# EAGLE library part ARDUINO_DUE (library aruduinos)
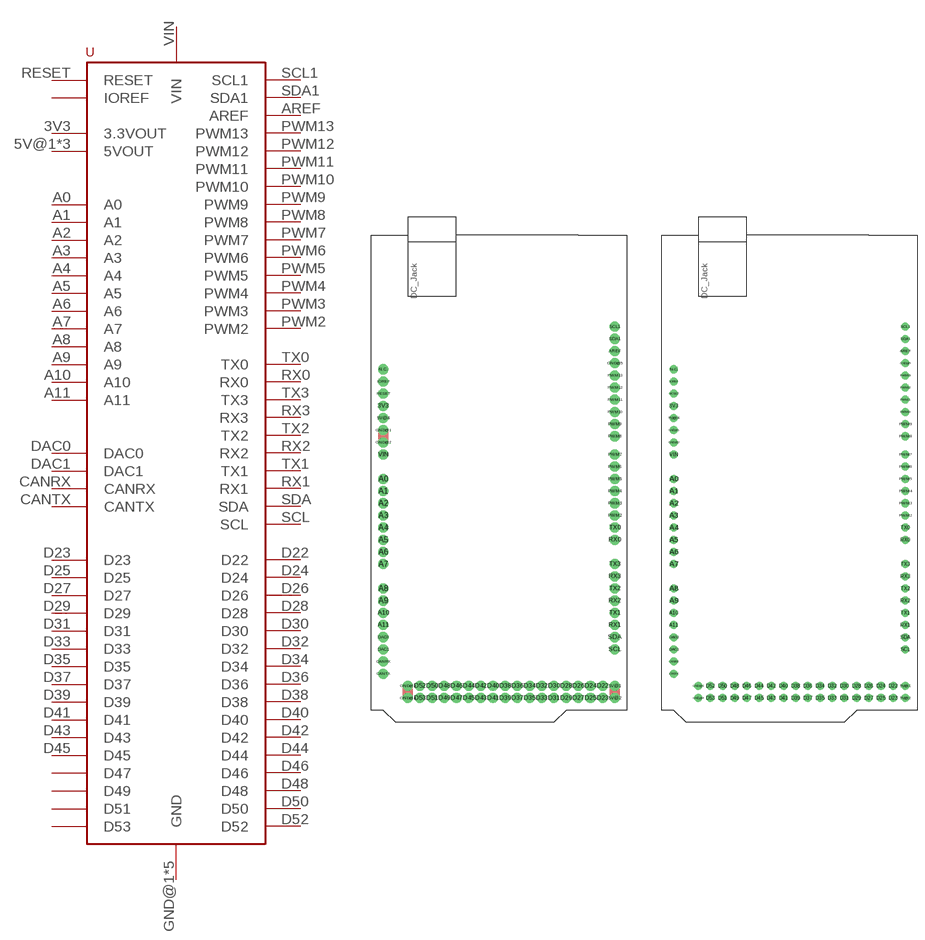
[diagram p4: symbol with the pads of ARDUINO_DUE; footprints ARDUINO_DUE, ARUDUINO_DUE_MINHOLE]

Designator prefix -

## ARDUINO_DUE1  [ARDUINO_DUE]
3V3  3.3VOUT
5V@1  5VOUT
5V@2  5VOUT
5V@4  5VOUT
A0  A0
A1  A1
A2  A2
A3  A3
A4  A4
A5  A5
A6  A6
A7  A7
A8  A8
A9  A9
A10  A10
A11  A11
AREF  AREF
CANRX  CANRX
CANTX  CANTX
D22  D22
D23  D23
D24  D24
D25  D25
D26  D26
D27  D27
D28  D28
D29  D29
D30  D30
D31  D31
D32  D32
D33  D33
D34  D34
D35  D35
D36  D36
D37  D37
D38  D38
D39  D39
D40  D40
D41  D41
D42  D42
D43  D43
D44  D44
D45  D45
D46  D46
D47  D47
D48  D48
D49  D49
D50  D50
D51  D51
D52  D52
D53  D53
DAC0  DAC0
DAC1  DAC1
GND@1  GND
GND@2  GND
GND@3  GND
GND@4  GND
GND@5  GND
IOREF  IOREF
PWM2  PWM2
PWM3  PWM3
PWM4  PWM4
PWM5  PWM5
PWM6  PWM6
PWM7  PWM7
PWM8  PWM8
PWM9  PWM9
PWM10  PWM10
PWM11  PWM11
PWM12  PWM12
PWM13  PWM13
RESET  RESET
RX0  RX0
RX1  RX1
RX2  RX2
RX3  RX3
SCL  SCL
SCL1  SCL1
SDA  SDA
SDA1  SDA1
TX0  TX0
TX1  TX1
TX2  TX2
TX3  TX3
VIN  VIN

## ARDUINO_DUE2  [ARUDUINO_DUE_MINHOLE]
Pads as for ARDUINO_DUE

## Footprint ARDUINO_DUE (pad centres in mm)
drill 1.4: 3V3 -27.94,12.7; 5V@1 20.32,-45.72; 5V@2 20.32,-48.26; 5V@4 -27.94,10.16; A0 -27.94,-2.54; A1 -27.94,-5.08; A2 -27.94,-7.62; A3 -27.94,-10.16; A4 -27.94,-12.7; A5 -27.94,-15.24; A6 -27.94,-17.78; A7 -27.94,-20.32; A8 -27.94,-25.4; A9 -27.94,-27.94; A10 -27.94,-30.48; A11 -27.94,-33.02; AREF 20.32,24.13; CANRX -27.94,-40.64; CANTX -27.94,-43.18; D22 17.78,-45.72; D23 17.78,-48.26; D24 15.24,-45.72; D25 15.24,-48.26; D26 12.7,-45.72; D27 12.7,-48.26; D28 10.16,-45.72; D29 10.16,-48.26; D30 7.62,-45.72; D31 7.62,-48.26; D32 5.08,-45.72; D33 5.08,-48.26; D34 2.54,-45.72; D35 2.54,-48.26; D36 0,-45.72; D37 0,-48.26; D38 -2.54,-45.72; D39 -2.54,-48.26; D40 -5.08,-45.72; D41 -5.08,-48.26; D42 -7.62,-45.72; D43 -7.62,-48.26; D44 -10.16,-45.72; D45 -10.16,-48.26; D46 -12.7,-45.72; D47 -12.7,-48.26; D48 -15.24,-45.72; D49 -15.24,-48.26; D50 -17.78,-45.72; D51 -17.78,-48.26; D52 -20.32,-45.72; D53 -20.32,-48.26; DAC0 -27.94,-35.56; DAC1 -27.94,-38.1; GND@1 -27.94,7.62; GND@2 -27.94,5.08; GND@3 -22.86,-45.72; GND@4 -22.86,-48.26; GND@5 20.32,21.59; IOREF -27.94,17.78; N.C. -27.94,20.32; PWM2 20.32,-10.16; PWM3 20.32,-7.62; PWM4 20.32,-5.08; PWM5 20.32,-2.54; PWM6 20.32,0; PWM7 20.32,2.54; PWM8 20.32,6.35; PWM9 20.32,8.89; PWM10 20.32,11.43; PWM11 20.32,13.97; PWM12 20.32,16.51; PWM13 20.32,19.05; RESET -27.94,15.24; RX0 20.32,-15.24; RX1 20.32,-33.02; RX2 20.32,-27.94; RX3 20.32,-22.86; SCL 20.32,-38.1; SCL1 20.32,29.21; SDA 20.32,-35.56; SDA1 20.32,26.67; TX0 20.32,-12.7; TX1 20.32,-30.48; TX2 20.32,-25.4; TX3 20.32,-20.32; VIN -27.94,2.54

## Footprint ARUDUINO_DUE_MINHOLE (pad centres in mm)
drill 0.8 pad 1.676: 3V3 -24.13,16.51; 5V@1 24.13,-41.91; 5V@2 24.13,-44.45; 5V@4 -24.13,13.97; A0 -24.13,1.27; A1 -24.13,-1.27; A2 -24.13,-3.81; A3 -24.13,-6.35; A4 -24.13,-8.89; A5 -24.13,-11.43; A6 -24.13,-13.97; A7 -24.13,-16.51; A8 -24.13,-21.59; A9 -24.13,-24.13; A10 -24.13,-26.67; A11 -24.13,-29.21; AREF 24.13,27.94; CANRX -24.13,-36.83; CANTX -24.13,-39.37; D22 21.59,-41.91; D23 21.59,-44.45; D24 19.05,-41.91; D25 19.05,-44.45; D26 16.51,-41.91; D27 16.51,-44.45; D28 13.97,-41.91; D29 13.97,-44.45; D30 11.43,-41.91; D31 11.43,-44.45; D32 8.89,-41.91; D33 8.89,-44.45; D34 6.35,-41.91; D35 6.35,-44.45; D36 3.81,-41.91; D37 3.81,-44.45; D38 1.27,-41.91; D39 1.27,-44.45; D40 -1.27,-41.91; D41 -1.27,-44.45; D42 -3.81,-41.91; D43 -3.81,-44.45; D44 -6.35,-41.91; D45 -6.35,-44.45; D46 -8.89,-41.91; D47 -8.89,-44.45; D48 -11.43,-41.91; D49 -11.43,-44.45; D50 -13.97,-41.91; D51 -13.97,-44.45; D52 -16.51,-41.91; D53 -16.51,-44.45; DAC0 -24.13,-31.75; DAC1 -24.13,-34.29; GND@1 -24.13,11.43; GND@2 -24.13,8.89; GND@3 -19.05,-41.91; GND@4 -19.05,-44.45; GND@5 24.13,25.4; IOREF -24.13,21.59; N.C. -24.13,24.13; PWM2 24.13,-6.35; PWM3 24.13,-3.81; PWM4 24.13,-1.27; PWM5 24.13,1.27; PWM6 24.13,3.81; PWM7 24.13,6.35; PWM8 24.13,10.16; PWM9 24.13,12.7; PWM10 24.13,15.24; PWM11 24.13,17.78; PWM12 24.13,20.32; PWM13 24.13,22.86; RESET -24.13,19.05; RX0 24.13,-11.43; RX1 24.13,-29.21; RX2 24.13,-24.13; RX3 24.13,-19.05; SCL 24.13,-34.29; SCL1 24.13,33.02; SDA 24.13,-31.75; SDA1 24.13,30.48; TX0 24.13,-8.89; TX1 24.13,-26.67; TX2 24.13,-21.59; TX3 24.13,-16.51; VIN -24.13,6.35